# Altium integrated library WE-PD2 HV SMD Power Inductor (High Voltage).IntLib: 9 symbols
Pins are listed as number, name and electrical type; pins without a type are passive.

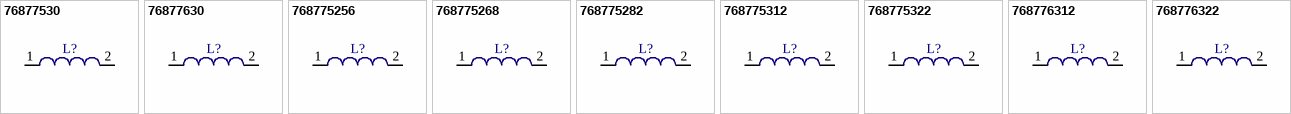
[diagram p0: symbols 76877530 to 768776322]

## 76877530
designator L?
SMD Power Inductor WE-PD2 HV, L=1000 µH; PartNumber: 76877530; Inductance: 1000 µH; PackageReference: 7850; ComponentLink1Description: Manufacturer URL; ComponentLink1URL: http://www.we-online.com; ComponentLink2Description: Datasheet; ComponentLink2URL: http://www.we-online.de/katalog/media/pdf/76877530.pdf
footprint 7850 (Precision Wire Wound Inductor, 2-Leads, Body 7.8x7.0mm, IPC Medium Density)
pins: 1, 2

## 76877630
designator L?
SMD Power Inductor WE-PD2 HV, L=1000 µH; PartNumber: 76877630; Inductance: 1000 µH; PackageReference: 1054; ComponentLink1Description: Manufacturer URL; ComponentLink1URL: http://www.we-online.com; ComponentLink2Description: Datasheet; ComponentLink2URL: http://www.we-online.de/katalog/media/pdf/76877630.pdf
footprint 1054 (Precision Wire Wound Inductor, 2-Leads, Body 10.0x9.0mm, IPC Medium Density)
pins: 1, 2

## 768775256
designator L?
SMD Power Inductor WE-PD2 HV, L=560 µH; PartNumber: 768775256; Inductance: 560 µH; PackageReference: 7850; ComponentLink1Description: Manufacturer URL; ComponentLink1URL: http://www.we-online.com; ComponentLink2Description: Datasheet; ComponentLink2URL: http://www.we-online.de/katalog/media/pdf/768775256.pdf
footprint 7850 (Precision Wire Wound Inductor, 2-Leads, Body 7.8x7.0mm, IPC Medium Density)
pins: 1, 2

## 768775268
designator L?
SMD Power Inductor WE-PD2 HV, L=680 µH; PartNumber: 768775268; Inductance: 680 µH; PackageReference: 7850; ComponentLink1Description: Manufacturer URL; ComponentLink1URL: http://www.we-online.com; ComponentLink2Description: Datasheet; ComponentLink2URL: http://www.we-online.de/katalog/media/pdf/768775268.pdf
footprint 7850 (Precision Wire Wound Inductor, 2-Leads, Body 7.8x7.0mm, IPC Medium Density)
pins: 1, 2

## 768775282
designator L?
SMD Power Inductor WE-PD2 HV, L=820 µH; PartNumber: 768775282; Inductance: 820 µH; PackageReference: 7850; ComponentLink1Description: Manufacturer URL; ComponentLink1URL: http://www.we-online.com; ComponentLink2Description: Datasheet; ComponentLink2URL: http://www.we-online.de/katalog/media/pdf/768775282.pdf
footprint 7850 (Precision Wire Wound Inductor, 2-Leads, Body 7.8x7.0mm, IPC Medium Density)
pins: 1, 2

## 768775312
designator L?
SMD Power Inductor WE-PD2 HV, L=1200 µH; PartNumber: 768775312; Inductance: 1200 µH; PackageReference: 7850; ComponentLink1Description: Manufacturer URL; ComponentLink1URL: http://www.we-online.com; ComponentLink2Description: Datasheet; ComponentLink2URL: http://www.we-online.de/katalog/media/pdf/768775312.pdf
footprint 7850 (Precision Wire Wound Inductor, 2-Leads, Body 7.8x7.0mm, IPC Medium Density)
pins: 1, 2

## 768775322
designator L?
SMD Power Inductor WE-PD2 HV, L=2200 µH; PartNumber: 768775322; Inductance: 2200 µH; PackageReference: 7850; ComponentLink1Description: Manufacturer URL; ComponentLink1URL: http://www.we-online.com; ComponentLink2Description: Datasheet; ComponentLink2URL: http://www.we-online.de/katalog/media/pdf/768775322.pdf
footprint 7850 (Precision Wire Wound Inductor, 2-Leads, Body 7.8x7.0mm, IPC Medium Density)
pins: 1, 2

## 768776312
designator L?
SMD Power Inductor WE-PD2 HV, L=1200 µH; PartNumber: 768776312; Inductance: 1200 µH; PackageReference: 1054; ComponentLink1Description: Manufacturer URL; ComponentLink1URL: http://www.we-online.com; ComponentLink2Description: Datasheet; ComponentLink2URL: http://www.we-online.de/katalog/media/pdf/768776312.pdf
footprint 1054 (Precision Wire Wound Inductor, 2-Leads, Body 10.0x9.0mm, IPC Medium Density)
pins: 1, 2

## 768776322
designator L?
SMD Power Inductor WE-PD2 HV, L=2200 µH; PartNumber: 768776322; Inductance: 2200 µH; PackageReference: 1054; ComponentLink1Description: Manufacturer URL; ComponentLink1URL: http://www.we-online.com; ComponentLink2Description: Datasheet; ComponentLink2URL: http://www.we-online.de/katalog/media/pdf/768776322.pdf
footprint 1054 (Precision Wire Wound Inductor, 2-Leads, Body 10.0x9.0mm, IPC Medium Density)
pins: 1, 2